# EAGLE library part 4530 (library 45xx)
Dual 5-input MAJORITY GATE
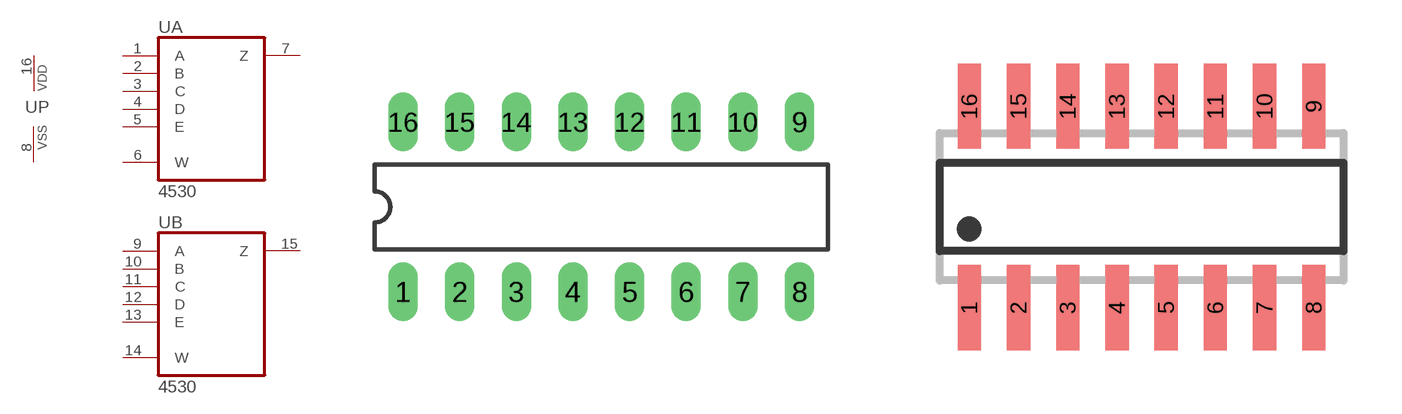
[diagram p20: symbol with the pads of DIL16; footprints DIL16, SO16]

Designator prefix U; gates A=4530 B=4530 P=PWRN

## 4530N  [DIL16]
1  A:A  in
2  A:B  in
3  A:C  in
4  A:D  in
5  A:E  in
6  A:W  in
7  A:Z  out
8  P:VSS  pwr
9  B:A  in
10  B:B  in
11  B:C  in
12  B:D  in
13  B:E  in
14  B:W  in
15  B:Z  out
16  P:VDD  pwr

## 4530D  [SO16]
Pads as for DIL16

## Footprint DIL16 (pad centres in mm)
Dual In Line Package
drill 0.813 long: 1 -8.89,-3.81; 2 -6.35,-3.81; 3 -3.81,-3.81; 4 -1.27,-3.81; 5 1.27,-3.81; 6 3.81,-3.81; 7 6.35,-3.81; 8 8.89,-3.81; 9 8.89,3.81; 10 6.35,3.81; 11 3.81,3.81; 12 1.27,3.81; 13 -1.27,3.81; 14 -3.81,3.81; 15 -6.35,3.81; 16 -8.89,3.81

## Footprint SO16 (pad centres in mm)
SMALL OUTLINE INTEGRATED CIRCUIT body 3.9 mm/JEDEC MS-012AC
smd 0.6 x 2.2: 1 -4.445,-2.6; 2 -3.175,-2.6; 3 -1.905,-2.6; 4 -0.635,-2.6; 5 0.635,-2.6; 6 1.905,-2.6; 7 3.175,-2.6; 8 4.445,-2.6; 9 4.445,2.6; 10 3.175,2.6; 11 1.905,2.6; 12 0.635,2.6; 13 -0.635,2.6; 14 -1.905,2.6; 15 -3.175,2.6; 16 -4.445,2.6